# EAGLE library part 693013050811 (library Wurth_Elektronik_Electromechanic_Input-Output_Connectors_rev15c)
WR-CRD Mega SIM_Push and Push 8 pins=>Code : Con_I-O_COM_CRD_SIM_Mega_693013050811 <http://katalog.we-online.de/media/images/eican/Con_I-O_COM_CRD_SIM_Mega_693013050811_pf2.jpg> Details see: http://katalog.we-online.de/en/em/693_013_050_811 Created 2014-07-09, Karrer Zheng 2014 (C) Würth Elektronik
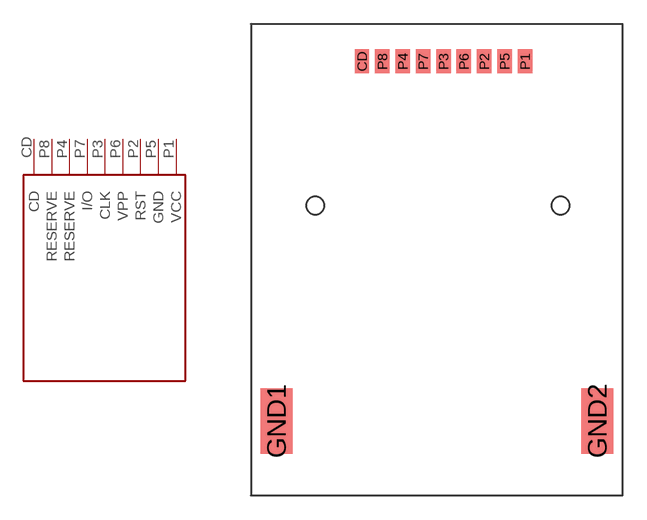
[diagram p144: symbol with the pads of 693013050811; footprint 693013050811]

Designator prefix K

## 693013050811  [693013050811]
CD  CD
P1  VCC
P2  RST
P3  CLK
P4  RESERVE
P5  GND
P6  VPP
P7  I/O
P8  RESERVE

## Footprint 693013050811 (pad centres in mm)
WR-CRD Mega SIM_Push and Push 8 pins
smd 0.9 x 1.5: CD 2.915,9; P1 13.075,9; P2 10.535,9; P3 7.995,9; P4 5.455,9; P5 11.805,9; P6 9.265,9; P7 6.725,9; P8 4.185,9
smd 2 x 4.1: GND1 -2.42,-13.43; GND2 17.58,-13.43